# Altium footprint library AP5056.PcbLib: 3 footprints
Each footprint in its own frame and in the unit in brackets; x right, y up, seen from the top. Pads: shape width x height; smd on the part's side, far side on the other; paste and mask are expansions set on the pad; w line width, h text height; cw(c..) or ccw(c..) is an arc to the next point about the centre after c.
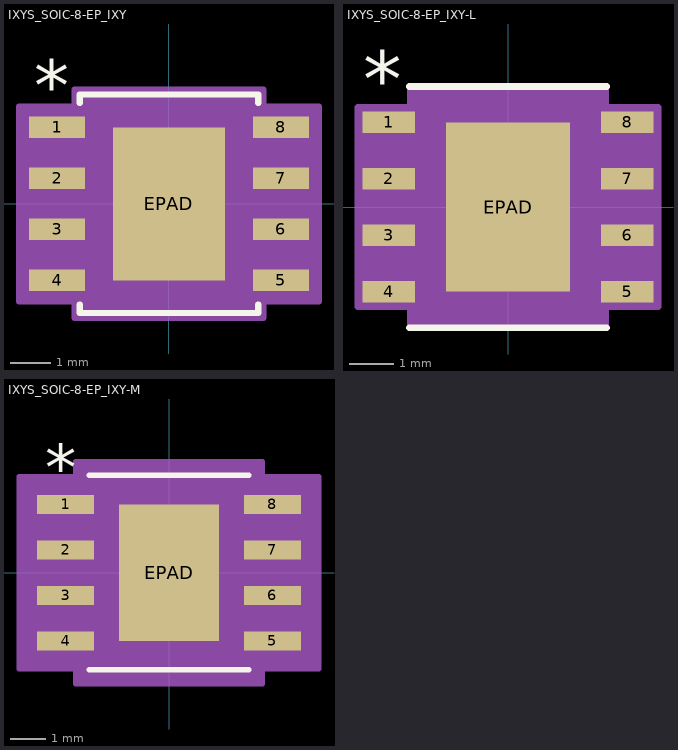
[diagram p0: the footprints below, top view; thin cyan lines are the x and y axes]

## IXYS_SOIC-8-EP_IXY [mil]
pads (9):
  rect 54.5x21 smd paste+0 mask+0: 1(-109.75,75) 2(-109.75,25) 3(-109.75,-25) 4(-109.75,-75) 5(109.75,-75) 6(109.75,-25) 7(109.75,25) 8(109.75,75)
  rect 110x150 smd paste-74.5 mask+0: EPAD(0,0)
Top Overlay:
  lines w6: -87.5,-98.6 -87.5,-107 87.5,-107 87.5,-98.6 ; -87.5,98.6 -87.5,107 87.5,107 87.5,98.6
  text "*" at -132.25,91 h50
Top Paste:
  region: -3.94,71.06 -51.06,71.06 -51.06,28.94 -3.94,28.94
  region: -3.94,21.06 -51.06,21.06 -51.06,-21.06 -3.94,-21.06
  region: -3.94,-28.94 -51.06,-28.94 -51.06,-71.06 -3.94,-71.06
  region: 51.06,71.06 3.94,71.06 3.94,28.94 51.06,28.94
  region: 51.06,21.06 3.94,21.06 3.94,-21.06 51.06,-21.06
  region: 51.06,-28.94 3.94,-28.94 3.94,-71.06 51.06,-71.06
Mechanical 13:
  lines w0: -12,102 ccw(c0,102) 12,102
  lines w1: -123,-84.5 -123,-65.5 -82.5,-65.5 -82.5,-84.5 -123,-84.5 ; -123,-34.5 -123,-15.5 -82.5,-15.5 -82.5,-34.5 -123,-34.5 ; -123,15.5 -123,34.5 -82.5,34.5 -82.5,15.5 -123,15.5 ; -123,65.5 -123,84.5 -82.5,84.5 -82.5,65.5 -123,65.5 ; -82.5,-102 82.5,-102 82.5,102 -82.5,102 -82.5,-102 ; 82.5,-84.5 82.5,-65.5 123,-65.5 123,-84.5 82.5,-84.5 ; 82.5,-34.5 82.5,-15.5 123,-15.5 123,-34.5 82.5,-34.5 ; 82.5,15.5 82.5,34.5 123,34.5 123,15.5 82.5,15.5 ; 82.5,65.5 82.5,84.5 123,84.5 123,65.5 82.5,65.5
  text "*" at -80,49 h50
Mechanical 15:
  region: -92.5,-95.5 -147,-95.5 -147,95.5 -92.5,95.5 -92.5,112 92.5,112 92.5,95.5 147,95.5 147,-95.5 92.5,-95.5 92.5,-112 -92.5,-112
  lines w6: -147,-95.5 -147,95.5 -92.5,95.5 -92.5,112 92.5,112 92.5,95.5 147,95.5 147,-95.5 92.5,-95.5 92.5,-112 -92.5,-112 -92.5,-95.5 -147,-95.5
3D body "IXYS_SOIC-8-EP_IXY.step": height 66.1, standoff 0, extent -122.99,-102.01 122.99,102.01

## IXYS_SOIC-8-EP_IXY-L [mil]
pads (9):
  rect 46.5x19 smd paste+0 mask+0: 1(-105.75,75) 2(-105.75,25) 3(-105.75,-25) 4(-105.75,-75) 5(105.75,-75) 6(105.75,-25) 7(105.75,25) 8(105.75,75)
  rect 110x150 smd paste-74.5 mask+0: EPAD(0,0)
Top Overlay:
  lines w6: -87.5,-107 87.5,-107 ; -87.5,107 87.5,107
  text "*" at -128.25,89 h50
Top Paste:
  region: 51.06,-28.94 3.94,-28.94 3.94,-71.06 51.06,-71.06
  region: 51.06,21.06 3.94,21.06 3.94,-21.06 51.06,-21.06
  region: 51.06,71.06 3.94,71.06 3.94,28.94 51.06,28.94
  region: -3.94,-28.94 -51.06,-28.94 -51.06,-71.06 -3.94,-71.06
  region: -3.94,21.06 -51.06,21.06 -51.06,-21.06 -3.94,-21.06
  region: -3.94,71.06 -51.06,71.06 -51.06,28.94 -3.94,28.94
Mechanical 13:
  lines w0: -12,102 ccw(c0,102) 12,102
  lines w1: -123,-84.5 -82.5,-84.5 -82.5,-65.5 -123,-65.5 -123,-84.5 ; -123,-34.5 -82.5,-34.5 -82.5,-15.5 -123,-15.5 -123,-34.5 ; -123,15.5 -82.5,15.5 -82.5,34.5 -123,34.5 -123,15.5 ; -123,65.5 -82.5,65.5 -82.5,84.5 -123,84.5 -123,65.5 ; -82.5,-102 -82.5,102 82.5,102 82.5,-102 -82.5,-102 ; 82.5,-84.5 123,-84.5 123,-65.5 82.5,-65.5 82.5,-84.5 ; 82.5,-34.5 123,-34.5 123,-15.5 82.5,-15.5 82.5,-34.5 ; 82.5,15.5 123,15.5 123,34.5 82.5,34.5 82.5,15.5 ; 82.5,65.5 123,65.5 123,84.5 82.5,84.5 82.5,65.5
  text "*" at -80,49 h50
Mechanical 15:
  region: -86.5,-88.5 -133,-88.5 -133,88.5 -86.5,88.5 -86.5,106 86.5,106 86.5,88.5 133,88.5 133,-88.5 86.5,-88.5 86.5,-106 -86.5,-106
  lines w6: -133,-88.5 -86.5,-88.5 -86.5,-106 86.5,-106 86.5,-88.5 133,-88.5 133,88.5 86.5,88.5 86.5,106 -86.5,106 -86.5,88.5 -133,88.5 -133,-88.5
3D body "IXYS_SOIC-8-EP_IXY.step": height 66.1, standoff 0, extent -122.99,-102.01 122.99,102.01

## IXYS_SOIC-8-EP_IXY-M [mil]
pads (9):
  rect 62.5x21 smd paste+0 mask+0: 1(-113.75,75) 2(-113.75,25) 3(-113.75,-25) 4(-113.75,-75) 5(113.75,-75) 6(113.75,-25) 7(113.75,25) 8(113.75,75)
  rect 110x150 smd paste-74.5 mask+0: EPAD(0,0)
Top Overlay:
  lines w6: -87.5,-107 87.5,-107 ; -87.5,107 87.5,107
  text "*" at -136.25,91 h50
Top Paste:
  region: -3.94,71.06 -51.06,71.06 -51.06,28.94 -3.94,28.94
  region: -3.94,21.06 -51.06,21.06 -51.06,-21.06 -3.94,-21.06
  region: -3.94,-28.94 -51.06,-28.94 -51.06,-71.06 -3.94,-71.06
  region: 51.06,71.06 3.94,71.06 3.94,28.94 51.06,28.94
  region: 51.06,21.06 3.94,21.06 3.94,-21.06 51.06,-21.06
  region: 51.06,-28.94 3.94,-28.94 3.94,-71.06 51.06,-71.06
Mechanical 13:
  lines w0: -12,102 ccw(c0,102) 12,102
  lines w1: -123,-84.5 -123,-65.5 -82.5,-65.5 -82.5,-84.5 -123,-84.5 ; -123,-34.5 -123,-15.5 -82.5,-15.5 -82.5,-34.5 -123,-34.5 ; -123,15.5 -123,34.5 -82.5,34.5 -82.5,15.5 -123,15.5 ; -123,65.5 -123,84.5 -82.5,84.5 -82.5,65.5 -123,65.5 ; -82.5,-102 82.5,-102 82.5,102 -82.5,102 -82.5,-102 ; 82.5,-84.5 82.5,-65.5 123,-65.5 123,-84.5 82.5,-84.5 ; 82.5,-34.5 82.5,-15.5 123,-15.5 123,-34.5 82.5,-34.5 ; 82.5,15.5 82.5,34.5 123,34.5 123,15.5 82.5,15.5 ; 82.5,65.5 82.5,84.5 123,84.5 123,65.5 82.5,65.5
  text "*" at -80,49 h50
Mechanical 15:
  region: -102.5,-105.5 -165,-105.5 -165,105.5 -102.5,105.5 -102.5,122 102.5,122 102.5,105.5 165,105.5 165,-105.5 102.5,-105.5 102.5,-122 -102.5,-122
  lines w6: -165,-105.5 -165,105.5 -102.5,105.5 -102.5,122 102.5,122 102.5,105.5 165,105.5 165,-105.5 102.5,-105.5 102.5,-122 -102.5,-122 -102.5,-105.5 -165,-105.5
3D body "IXYS_SOIC-8-EP_IXY.step": height 66.1, standoff 0, extent -122.99,-102.01 122.99,102.01